# EAGLE library part MCP3421 (library FaBo-Sensor)
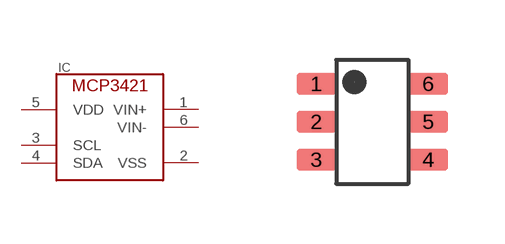
[diagram p15: symbol with the pads of SOT-23; footprint SOT-23]

Designator prefix IC

## MCP3421  [SOT-23]
1  VIN+
2  VSS
3  SCL
4  SDA
5  VDD
6  VIN-

## Footprint SOT-23 (pad centres in mm)
smd 1 x 0.55: 1 -1.4,0.95; 2 -1.4,0; 3 -1.4,-0.95; 4 1.4,-0.95; 5 1.4,0; 6 1.4,0.95